# Altium footprint library WURTH_9774040960R.PcbLib: 1 footprints
Each footprint in its own frame and in the unit in brackets; x right, y up, seen from the top. Pads: shape width x height; smd on the part's side, far side on the other; paste and mask are expansions set on the pad; w line width, h text height; cw(c..) or ccw(c..) is an arc to the next point about the centre after c.
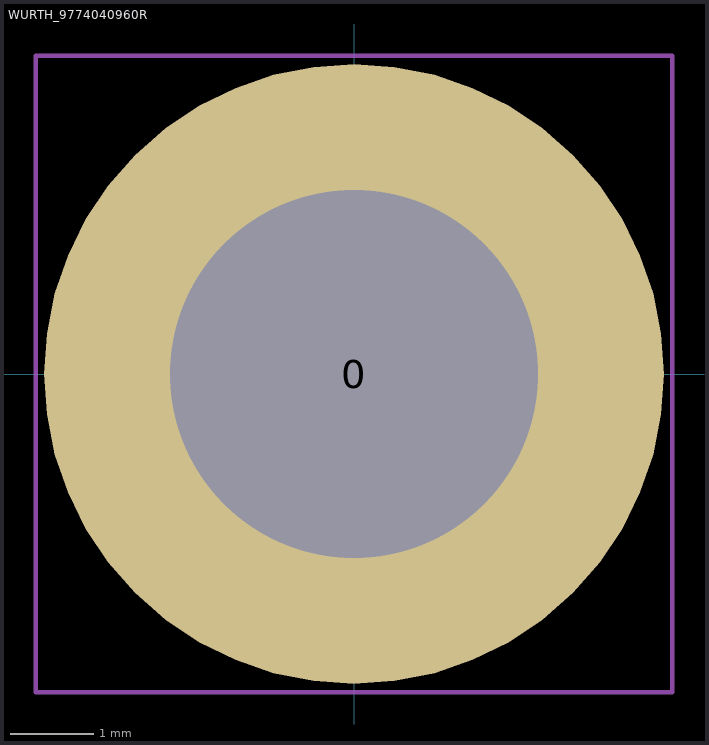
[diagram p0: the footprint, top view; thin cyan lines are the x and y axes]

## WURTH_9774040960R [mm] "WURTH_9774040960R"
height 4.1
pads (1):
  round 7.4 / inner round 5 / far side round 5 hole 4.4: 0(0,0)
Mechanical 13:
  circle w0.1: c0,0 r3
Mechanical 15:
  lines w0.05: -0.4,0 0.4,0 ; 0,-0.4 0,0.4 ; -3.8,-3.8 3.8,-3.8 3.8,3.8 -3.8,3.8 -3.8,-3.8
3D body "Mech,Standoff,M3,4mm,SMD (9774040360R).stp": height 4, standoff -1.4, extent -2.997,-3 2.997,2.988